# Altium schematic symbol library TPS73618DBVTG4.SchLib: 1 symbol
Pins are listed as number, name and electrical type; pins without a type are passive.

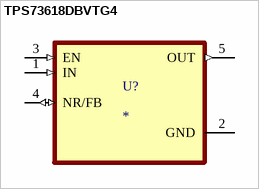
[diagram p0: symbol TPS73618DBVTG4]

## TPS73618DBVTG4
designator U?
MF: {'manufacturer': u'Texas Instruments'}; MP: TPS73618DBVTG4; Package: None; Price: None; Value: *; Availability: Unavailable
footprint SOT95P280X145-5N
pins: 1 IN (in), 2 GND (power), 3 EN (in), 4 NR/FB (io), 5 OUT (out)